# Altium footprint library PCB - MISC - HFBR1531Z.PCBLIB: 1 footprints
Each footprint in its own frame and in the unit in brackets; x right, y up, seen from the top. Pads: shape width x height; smd on the part's side, far side on the other; paste and mask are expansions set on the pad; w line width, h text height; cw(c..) or ccw(c..) is an arc to the next point about the centre after c.
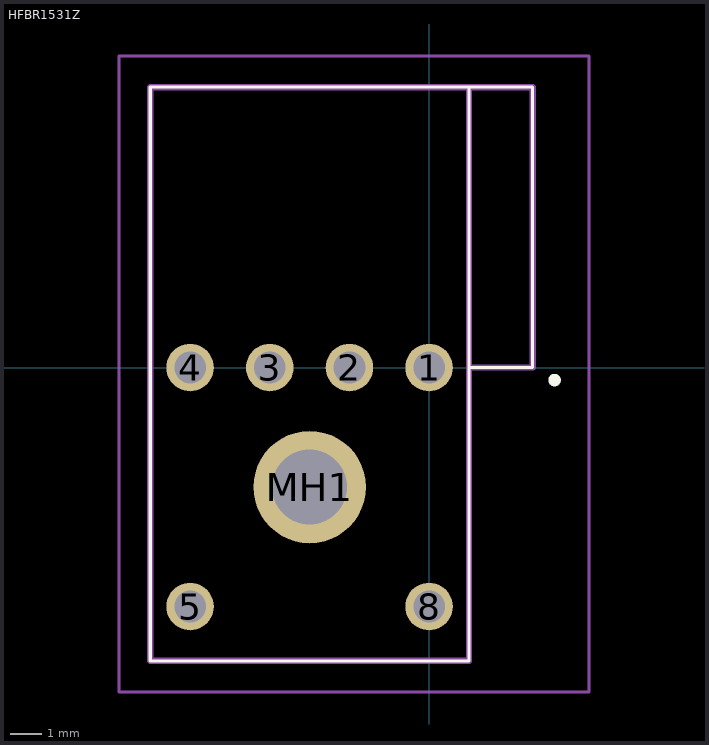
[diagram p0: the footprint, top view; thin cyan lines are the x and y axes]

## HFBR1531Z [mm]
pads (7):
  round 1.515 hole 1.01: 1(0,0) 2(-2.54,0) 3(-5.08,0) 4(-7.62,0) 5(-7.62,-7.62) 8(0,-7.62)
  round 3.585 hole 2.39: MH1(-3.81,-3.81)
Top Overlay:
  lines w0.1: 1.27,0 3.3,0 3.3,8.94 1.27,8.94 ; 1.27,8.94 1.27,-9.35 -8.89,-9.35 -8.89,8.94 1.27,8.94
  lines w0.2: 4,-0.5 cw(c4,-0.4) 4,-0.3 cw(c4,-0.4) 4,-0.5
Top Assembly:
  lines w0.2: 1.27,0 3.3,0 3.3,8.94 1.27,8.94 ; 1.27,8.94 -8.89,8.94 -8.89,-9.35 1.27,-9.35 1.27,8.94
Top Courtyard:
  lines w0.1: -9.89,-10.35 5.1,-10.35 5.1,9.94 -9.89,9.94 -9.89,-10.35
Top Designator:
  text ".Designator" at -9.906,11.557 h1
Top Value (Mech13):
  text ".Comment" at -9.906,10.414 h1
3D body "confidential 3D VL Vertical w plug.stp": height 22.8, standoff -2.99, extent -9.093,-9.398 3.251,8.717